# EAGLE library part P2_7_1.27 (library pins)
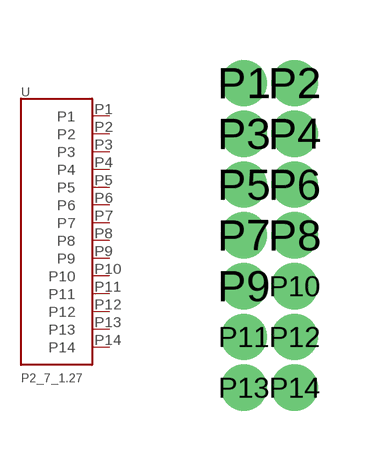
[diagram p0: symbol with the pads of P2_7_1.27; footprint P2_7_1.27]

Designator prefix -

## P2_7_1.27  [P2_7_1.27]
P1  P1
P2  P2
P3  P3
P4  P4
P5  P5
P6  P6
P7  P7
P8  P8
P9  P9
P10  P10
P11  P11
P12  P12
P13  P13
P14  P14

## Footprint P2_7_1.27 (pad centres in mm)
drill 0.65 pad 1.016: P1 0,3.81; P2 1.27,3.81; P3 0,2.54; P4 1.27,2.54; P5 0,1.27; P6 1.27,1.27; P7 0,0; P8 1.27,0; P9 0,-1.27; P10 1.27,-1.27; P11 0,-2.54; P12 1.27,-2.54; P13 0,-3.81; P14 1.27,-3.81